# Altium integrated library TI_Logic_Universal_Bus_Function.IntLib: 113 symbols (part 4 of 5)
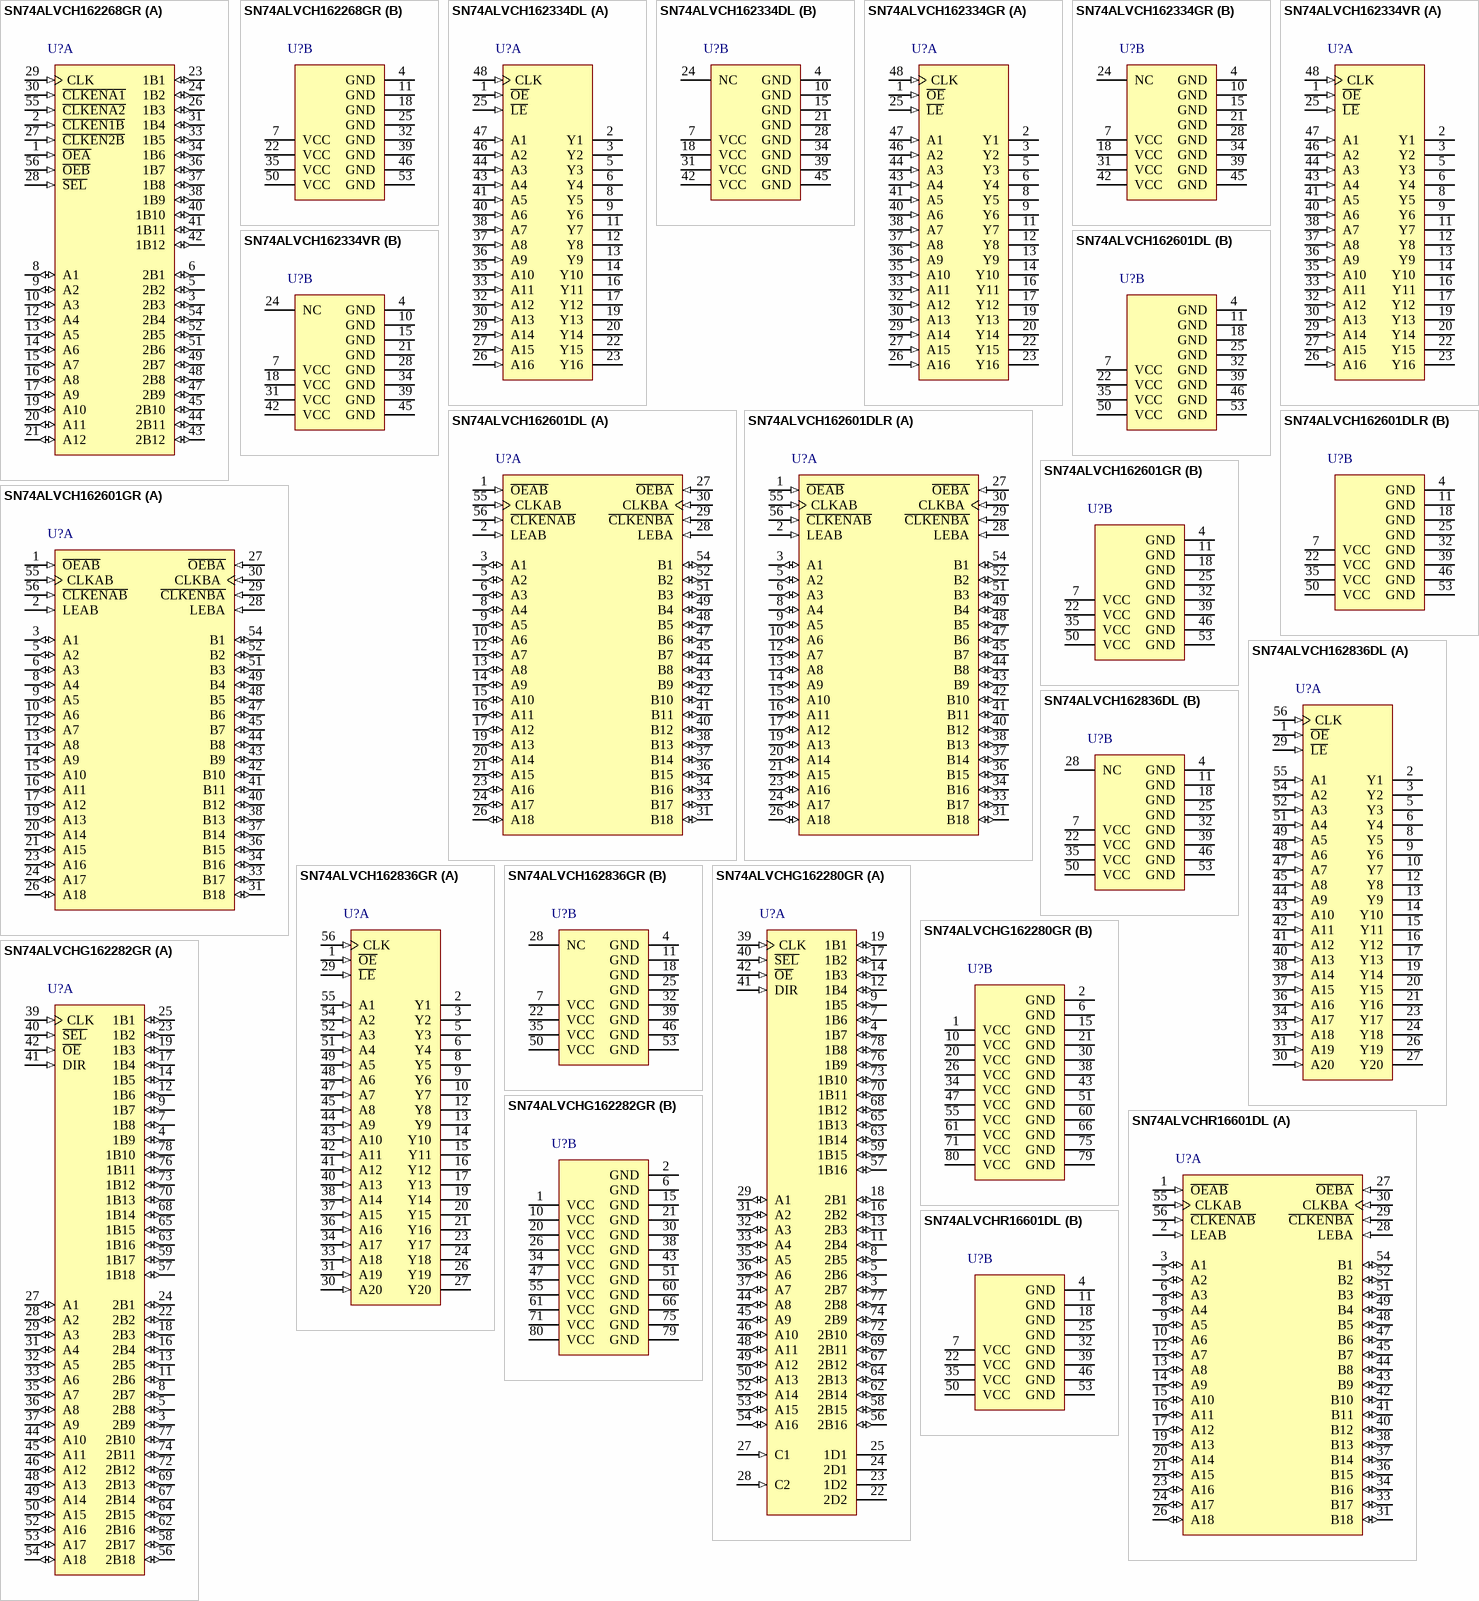
[diagram p12: symbols SN74ALVCH162268GR to SN74ALVCHR16601DL]

## SN74ALVCH162601DL
designator U?
18-Bit Universal Bus Transceiver With 3-State Outputs, DL0056A, TUBE; Generic Part Number: SN74ALVCH162601; Manufacturer: Texas Instruments; PartNumber: SN74ALVCH162601DL; VCC(Min)(V): 1.65; VCC(Max)(V): 3.6; Output Type: LVTTL; Logic: True; Static Current: 0.04; Bits(#): 18; F @ Nom Voltage(Max)(Mhz): 100; Rating: Catalog; Technology Family: ALVC; Voltage(Nom)(V): 3.3; Schmitt Trigger: No; Output Drive (IOL/IOH)(Max)(mA): -12/12; tpd @ Nom Voltage(Max)(ns): 5.5; DatasheetVersion: SCES026H; PackageReference: DL0056A; Supplier 1: Mouser; Supplier Part Number 1: 595-SNALVCH162601DL; Supplier 2: Digi-Key; Supplier Part Number 2: 296-5195-5-ND; ICC @ Nom Voltage(Max)(mA): 0.04; Input Type: LVTTL; Operating Temperature Range(C): -40 to 85; ComponentLink1Description: Manufacturer URL; ComponentLink1URL: http://www.ti.com/; ComponentLink2Description: Datasheet; ComponentLink2URL: http://www.ti.com/lit/ds/symlink/sn74alvch162601.pdf
footprint DL0056A_N (SOP, 56-Leads, Body 7.6x18.5mm, Pitch 0.635mm, IPC Medium Density)
footprint DL0056A_M (SOP, 56-Leads, Body 7.6x18.5mm, Pitch 0.635mm, IPC Low Density)
footprint DL0056A_L (SOP, 56-Leads, Body 7.6x18.5mm, Pitch 0.635mm, IPC High Density)
part A pins: 1 ~{OEAB} (in), 2 LEAB (in), 3 A1 (io), 5 A2 (io), 6 A3 (io), 8 A4 (io), 9 A5 (io), 10 A6 (io), 12 A7 (io), 13 A8 (io), 14 A9 (io), 15 A10 (io), 16 A11 (io), 17 A12 (io), 19 A13 (io), 20 A14 (io), 21 A15 (io), 23 A16 (io), 24 A17 (io), 26 A18 (io), 27 ~{OEBA} (in), 28 LEBA (in), 29 ~{CLKENBA} (in), 30 CLKBA (in), 31 B18 (io), 33 B17 (io), 34 B16 (io), 36 B15 (io), 37 B14 (io), 38 B13 (io), 40 B12 (io), 41 B11 (io), 42 B10 (io), 43 B9 (io), 44 B8 (io), 45 B7 (io), 47 B6 (io), 48 B5 (io), 49 B4 (io), 51 B3 (io), 52 B2 (io), 54 B1 (io), 55 CLKAB (in), 56 ~{CLKENAB} (in)
part B pins: 4 GND (power), 7 VCC (power), 11 GND (power), 18 GND (power), 22 VCC (power), 25 GND (power), 32 GND (power), 35 VCC (power), 39 GND (power), 46 GND (power), 50 VCC (power), 53 GND (power)

## SN74ALVCH162601DLR
designator U?
18-Bit Universal Bus Transceiver With 3-State Outputs, DL0056A, LARGE T&R; Generic Part Number: SN74ALVCH162601; Manufacturer: Texas Instruments; PartNumber: SN74ALVCH162601DLR; VCC(Min)(V): 1.65; VCC(Max)(V): 3.6; Output Type: LVTTL; Logic: True; Static Current: 0.04; Bits(#): 18; F @ Nom Voltage(Max)(Mhz): 100; Rating: Catalog; Technology Family: ALVC; Voltage(Nom)(V): 3.3; Schmitt Trigger: No; Output Drive (IOL/IOH)(Max)(mA): -12/12; tpd @ Nom Voltage(Max)(ns): 5.5; DatasheetVersion: SCES026H; PackageReference: DL0056A; Supplier 1: Mouser; Supplier Part Number 1: 595-SN74ALVCH16260LR; Supplier 2: Digi-Key; Supplier Part Number 2: 296-14782-2-ND; Supplier 3: Digi-Key; Supplier Part Number 3: 296-14782-1-ND; Supplier 4: Digi-Key; Supplier Part Number 4: 296-14782-6-ND; ICC @ Nom Voltage(Max)(mA): 0.04; Input Type: LVTTL; Operating Temperature Range(C): -40 to 85; ComponentLink1Description: Manufacturer URL; ComponentLink1URL: http://www.ti.com/; ComponentLink2Description: Datasheet; ComponentLink2URL: http://www.ti.com/lit/ds/symlink/sn74alvch162601.pdf
footprint DL0056A_N (SOP, 56-Leads, Body 7.6x18.5mm, Pitch 0.635mm, IPC Medium Density)
footprint DL0056A_M (SOP, 56-Leads, Body 7.6x18.5mm, Pitch 0.635mm, IPC Low Density)
footprint DL0056A_L (SOP, 56-Leads, Body 7.6x18.5mm, Pitch 0.635mm, IPC High Density)
part A pins: 1 ~{OEAB} (in), 2 LEAB (in), 3 A1 (io), 5 A2 (io), 6 A3 (io), 8 A4 (io), 9 A5 (io), 10 A6 (io), 12 A7 (io), 13 A8 (io), 14 A9 (io), 15 A10 (io), 16 A11 (io), 17 A12 (io), 19 A13 (io), 20 A14 (io), 21 A15 (io), 23 A16 (io), 24 A17 (io), 26 A18 (io), 27 ~{OEBA} (in), 28 LEBA (in), 29 ~{CLKENBA} (in), 30 CLKBA (in), 31 B18 (io), 33 B17 (io), 34 B16 (io), 36 B15 (io), 37 B14 (io), 38 B13 (io), 40 B12 (io), 41 B11 (io), 42 B10 (io), 43 B9 (io), 44 B8 (io), 45 B7 (io), 47 B6 (io), 48 B5 (io), 49 B4 (io), 51 B3 (io), 52 B2 (io), 54 B1 (io), 55 CLKAB (in), 56 ~{CLKENAB} (in)
part B pins: 4 GND (power), 7 VCC (power), 11 GND (power), 18 GND (power), 22 VCC (power), 25 GND (power), 32 GND (power), 35 VCC (power), 39 GND (power), 46 GND (power), 50 VCC (power), 53 GND (power)

## SN74ALVCH162601GR
designator U?
18-Bit Universal Bus Transceiver With 3-State Outputs, DGG0056A, LARGE T&R; Generic Part Number: SN74ALVCH162601; Manufacturer: Texas Instruments; PartNumber: SN74ALVCH162601GR; VCC(Min)(V): 1.65; VCC(Max)(V): 3.6; Output Type: LVTTL; Logic: True; Static Current: 0.04; Bits(#): 18; F @ Nom Voltage(Max)(Mhz): 100; Rating: Catalog; Technology Family: ALVC; Voltage(Nom)(V): 3.3; Schmitt Trigger: No; Output Drive (IOL/IOH)(Max)(mA): -12/12; tpd @ Nom Voltage(Max)(ns): 5.5; DatasheetVersion: SCES026H; PackageReference: DGG0056A; Supplier 1: Mouser; Supplier Part Number 1: 595-SNALVCH162601GR; Supplier 2: Digi-Key; Supplier Part Number 2: 296-5196-2-ND; Supplier 3: Digi-Key; Supplier Part Number 3: 296-5196-1-ND; Supplier 4: Digi-Key; Supplier Part Number 4: 296-5196-6-ND; ICC @ Nom Voltage(Max)(mA): 0.04; Input Type: LVTTL; Operating Temperature Range(C): -40 to 85; ComponentLink1Description: Manufacturer URL; ComponentLink1URL: http://www.ti.com/; ComponentLink2Description: Datasheet; ComponentLink2URL: http://www.ti.com/lit/ds/symlink/sn74alvch162601.pdf
footprint DGG0056A_N (TSSOP, 56-Leads, Body 14.1x6.2mm, Pitch 0.5mm, IPC Medium Density)
footprint DGG0056A_M (TSSOP, 56-Leads, Body 14.1x6.2mm, Pitch 0.5mm, IPC Low Density)
footprint DGG0056A_L (TSSOP, 56-Leads, Body 14.1x6.2mm, Pitch 0.5mm, IPC High Density)
part A pins: 1 ~{OEAB} (in), 2 LEAB (in), 3 A1 (io), 5 A2 (io), 6 A3 (io), 8 A4 (io), 9 A5 (io), 10 A6 (io), 12 A7 (io), 13 A8 (io), 14 A9 (io), 15 A10 (io), 16 A11 (io), 17 A12 (io), 19 A13 (io), 20 A14 (io), 21 A15 (io), 23 A16 (io), 24 A17 (io), 26 A18 (io), 27 ~{OEBA} (in), 28 LEBA (in), 29 ~{CLKENBA} (in), 30 CLKBA (in), 31 B18 (io), 33 B17 (io), 34 B16 (io), 36 B15 (io), 37 B14 (io), 38 B13 (io), 40 B12 (io), 41 B11 (io), 42 B10 (io), 43 B9 (io), 44 B8 (io), 45 B7 (io), 47 B6 (io), 48 B5 (io), 49 B4 (io), 51 B3 (io), 52 B2 (io), 54 B1 (io), 55 CLKAB (in), 56 ~{CLKENAB} (in)
part B pins: 4 GND (power), 7 VCC (power), 11 GND (power), 18 GND (power), 22 VCC (power), 25 GND (power), 32 GND (power), 35 VCC (power), 39 GND (power), 46 GND (power), 50 VCC (power), 53 GND (power)

## SN74ALVCH162836DL
designator U?
20-Bit Universal Bus Driver With 3-State Outputs, DL0056A, TUBE; Generic Part Number: SN74ALVCH162836; Manufacturer: Texas Instruments; PartNumber: SN74ALVCH162836DL; VCC(Min)(V): 1.65; VCC(Max)(V): 3.6; Output Type: CMOS; ICC @ Nom Voltage(Max)(mA): 0.04; Bits(#): 20; F @ Nom Voltage(Max)(Mhz): 150; Rating: Catalog; Technology Family: ALVC; Voltage(Nom)(V): 1.8,2.5,2.7,3.3; DatasheetVersion: SCES122F; PackageReference: DL0056A; Input Type: CMOS; Operating Temperature Range(C): -40 to 85; Code_JEDEC: MO-118; ComponentLink1Description: Manufacturer URL; ComponentLink1URL: http://www.ti.com/; ComponentLink2Description: Datasheet; ComponentLink2URL: http://www.ti.com/lit/ds/symlink/sn74alvch162836.pdf; ComponentLink3Description: Package Specification; ComponentLink3URL: http://www.ti.com/lit/ml/mpds491/mpds491.pdf
footprint DL0056A_N (SOP, 56-Leads, Body 7.6x18.5mm, Pitch 0.635mm, IPC Medium Density)
footprint DL0056A_M (SOP, 56-Leads, Body 7.6x18.5mm, Pitch 0.635mm, IPC Low Density)
footprint DL0056A_L (SOP, 56-Leads, Body 7.6x18.5mm, Pitch 0.635mm, IPC High Density)
part A pins: 1 ~{OE} (in), 2 Y1 (hiz), 3 Y2 (hiz), 5 Y3 (hiz), 6 Y4 (hiz), 8 Y5 (hiz), 9 Y6 (hiz), 10 Y7 (hiz), 12 Y8 (hiz), 13 Y9 (hiz), 14 Y10 (hiz), 15 Y11 (hiz), 16 Y12 (hiz), 17 Y13 (hiz), 19 Y14 (hiz), 20 Y15 (hiz), 21 Y16 (hiz), 23 Y17 (hiz), 24 Y18 (hiz), 26 Y19 (hiz), 27 Y20 (hiz), 29 ~{LE} (in), 30 A20 (in), 31 A19 (in), 33 A18 (in), 34 A17 (in), 36 A16 (in), 37 A15 (in), 38 A14 (in), 40 A13 (in), 41 A12 (in), 42 A11 (in), 43 A10 (in), 44 A9 (in), 45 A8 (in), 47 A7 (in), 48 A6 (in), 49 A5 (in), 51 A4 (in), 52 A3 (in), 54 A2 (in), 55 A1 (in), 56 CLK (in)
part B pins: 4 GND (power), 7 VCC (power), 11 GND (power), 18 GND (power), 22 VCC (power), 25 GND (power), 28 NC, 32 GND (power), 35 VCC (power), 39 GND (power), 46 GND (power), 50 VCC (power), 53 GND (power)

## SN74ALVCH162836GR
designator U?
20-Bit Universal Bus Driver With 3-State Outputs, DGG0056A, LARGE T&R; Generic Part Number: SN74ALVCH162836; Manufacturer: Texas Instruments; PartNumber: SN74ALVCH162836GR; VCC(Min)(V): 1.65; VCC(Max)(V): 3.6; Output Type: CMOS; ICC @ Nom Voltage(Max)(mA): 0.04; Bits(#): 20; F @ Nom Voltage(Max)(Mhz): 150; Rating: Catalog; Technology Family: ALVC; Voltage(Nom)(V): 1.8,2.5,2.7,3.3; DatasheetVersion: SCES122F; PackageReference: DGG0056A; Input Type: CMOS; Operating Temperature Range(C): -40 to 85; Code_JEDEC: MO-153; ComponentLink1Description: Manufacturer URL; ComponentLink1URL: http://www.ti.com/; ComponentLink2Description: Datasheet; ComponentLink2URL: http://www.ti.com/lit/ds/symlink/sn74alvch162836.pdf; ComponentLink3Description: Package Specification; ComponentLink3URL: http://www.ti.com/lit/ml/mtss003d/mtss003d.pdf
footprint DGG0056A_N (TSSOP, 56-Leads, Body 14.1x6.2mm, Pitch 0.5mm, IPC Medium Density)
footprint DGG0056A_M (TSSOP, 56-Leads, Body 14.1x6.2mm, Pitch 0.5mm, IPC Low Density)
footprint DGG0056A_L (TSSOP, 56-Leads, Body 14.1x6.2mm, Pitch 0.5mm, IPC High Density)
part A pins: 1 ~{OE} (in), 2 Y1 (hiz), 3 Y2 (hiz), 5 Y3 (hiz), 6 Y4 (hiz), 8 Y5 (hiz), 9 Y6 (hiz), 10 Y7 (hiz), 12 Y8 (hiz), 13 Y9 (hiz), 14 Y10 (hiz), 15 Y11 (hiz), 16 Y12 (hiz), 17 Y13 (hiz), 19 Y14 (hiz), 20 Y15 (hiz), 21 Y16 (hiz), 23 Y17 (hiz), 24 Y18 (hiz), 26 Y19 (hiz), 27 Y20 (hiz), 29 ~{LE} (in), 30 A20 (in), 31 A19 (in), 33 A18 (in), 34 A17 (in), 36 A16 (in), 37 A15 (in), 38 A14 (in), 40 A13 (in), 41 A12 (in), 42 A11 (in), 43 A10 (in), 44 A9 (in), 45 A8 (in), 47 A7 (in), 48 A6 (in), 49 A5 (in), 51 A4 (in), 52 A3 (in), 54 A2 (in), 55 A1 (in), 56 CLK (in)
part B pins: 4 GND (power), 7 VCC (power), 11 GND (power), 18 GND (power), 22 VCC (power), 25 GND (power), 28 NC, 32 GND (power), 35 VCC (power), 39 GND (power), 46 GND (power), 50 VCC (power), 53 GND (power)

## SN74ALVCHG162280GR
designator U?
16-To-32 Bit Registered Bus Exchanger With Byte Masks And 3-State Outputs, DBB0080A, LARGE T&R; Generic Part Number: SN74ALVCHG162280; Manufacturer: Texas Instruments; PartNumber: SN74ALVCHG162280GR; VCC(Min)(V): 1.65; VCC(Max)(V): 3.6; Output Type: CMOS; ICC @ Nom Voltage(Max)(mA): 0.04; Bits(#): 32; F @ Nom Voltage(Max)(Mhz): 160; Rating: Catalog; DatasheetVersion: SCES093D; PackageReference: DBB0080A; Input Type: CMOS; Operating Temperature Range(C): -40 to 85; Code_JEDEC: MO-153 Variation FF; ComponentLink1Description: Manufacturer URL; ComponentLink1URL: http://www.ti.com/; ComponentLink2Description: Datasheet; ComponentLink2URL: http://www.ti.com/lit/ds/symlink/sn74alvchg162280.pdf; ComponentLink3Description: Package Specification; ComponentLink3URL: http://www.ti.com/lit/ml/mtss005d/mtss005d.pdf
footprint DBB0080A_N (SOP, 80-Leads, Body 17.1x6.2mm, Pitch 0.4mm, IPC Medium Density)
footprint DBB0080A_M (SOP, 80-Leads, Body 17.1x6.2mm, Pitch 0.4mm, IPC Low Density)
footprint DBB0080A_L (SOP, 80-Leads, Body 17.1x6.2mm, Pitch 0.4mm, IPC High Density)
part A pins: 3 2B7 (io), 4 1B7 (io), 5 2B6 (io), 7 1B6 (io), 8 2B5 (io), 9 1B5 (io), 11 2B4 (io), 12 1B4 (io), 13 2B3 (io), 14 1B3 (io), 16 2B2 (io), 17 1B2 (io), 18 2B1 (io), 19 1B1 (io), 22 2D2 (hiz), 23 1D2 (hiz), 24 2D1 (hiz), 25 1D1 (hiz), 27 C1 (in), 28 C2 (in), 29 A1 (io), 31 A2 (io), 32 A3 (io), 33 A4 (io), 35 A5 (io), 36 A6 (io), 37 A7 (io), 39 CLK (in), 40 ~{SEL} (in), 41 DIR (in), 42 ~{OE} (in), 44 A8 (io), 45 A9 (io), 46 A10 (io), 48 A11 (io), 49 A12 (io), 50 A13 (io), 52 A14 (io), 53 A15 (io), 54 A16 (io), 56 2B16 (io), 57 1B16 (io), 58 2B15 (io), 59 1B15 (io), 62 2B14 (io), 63 1B14 (io), 64 2B13 (io), 65 1B13 (io), 67 2B12 (io), 68 1B12 (io), 69 2B11 (io), 70 1B11 (io), 72 2B10 (io), 73 1B10 (io), 74 2B9 (io), 76 1B9 (io), 77 2B8 (io), 78 1B8 (io)
part B pins: 1 VCC (power), 2 GND (power), 6 GND (power), 10 VCC (power), 15 GND (power), 20 VCC (power), 21 GND (power), 26 VCC (power), 30 GND (power), 34 VCC (power), 38 GND (power), 43 GND (power), 47 VCC (power), 51 GND (power), 55 VCC (power), 60 GND (power), 61 VCC (power), 66 GND (power), 71 VCC (power), 75 GND (power), 79 GND (power), 80 VCC (power)

## SN74ALVCHG162282GR
designator U?
18-Bit To 36-Bit Registered Bus Exchanger With 3-State Outputs, DBB0080A, LARGE T&R; Generic Part Number: SN74ALVCHG162282; Manufacturer: Texas Instruments; PartNumber: SN74ALVCHG162282GR; VCC(Min)(V): 1.65; VCC(Max)(V): 3.6; Output Type: CMOS; ICC @ Nom Voltage(Max)(mA): 0.04; Bits(#): 36; F @ Nom Voltage(Max)(Mhz): 160; Rating: Catalog; DatasheetVersion: SCES094D; PackageReference: DBB0080A; Input Type: CMOS; Operating Temperature Range(C): -40 to 85; Code_JEDEC: MO-153 Variation FF; ComponentLink1Description: Manufacturer URL; ComponentLink1URL: http://www.ti.com/; ComponentLink2Description: Datasheet; ComponentLink2URL: http://www.ti.com/lit/ds/symlink/sn74alvchg162282.pdf; ComponentLink3Description: Package Specification; ComponentLink3URL: http://www.ti.com/lit/ml/mtss005d/mtss005d.pdf
footprint DBB0080A_N (SOP, 80-Leads, Body 17.1x6.2mm, Pitch 0.4mm, IPC Medium Density)
footprint DBB0080A_M (SOP, 80-Leads, Body 17.1x6.2mm, Pitch 0.4mm, IPC Low Density)
footprint DBB0080A_L (SOP, 80-Leads, Body 17.1x6.2mm, Pitch 0.4mm, IPC High Density)
part A pins: 3 2B9 (io), 4 1B9 (io), 5 2B8 (io), 7 1B8 (io), 8 2B7 (io), 9 1B7 (io), 11 2B6 (io), 12 1B6 (io), 13 2B5 (io), 14 1B5 (io), 16 2B4 (io), 17 1B4 (io), 18 2B3 (io), 19 1B3 (io), 22 2B2 (io), 23 1B2 (io), 24 2B1 (io), 25 1B1 (io), 27 A1 (io), 28 A2 (io), 29 A3 (io), 31 A4 (io), 32 A5 (io), 33 A6 (io), 35 A7 (io), 36 A8 (io), 37 A9 (io), 39 CLK (in), 40 ~{SEL} (in), 41 DIR (in), 42 ~{OE} (in), 44 A10 (io), 45 A11 (io), 46 A12 (io), 48 A13 (io), 49 A14 (io), 50 A15 (io), 52 A16 (io), 53 A17 (io), 54 A18 (io), 56 2B18 (io), 57 1B18 (io), 58 2B17 (io), 59 1B17 (io), 62 2B16 (io), 63 1B16 (io), 64 2B15 (io), 65 1B15 (io), 67 2B14 (io), 68 1B14 (io), 69 2B13 (io), 70 1B13 (io), 72 2B12 (io), 73 1B12 (io), 74 2B11 (io), 76 1B11 (io), 77 2B10 (io), 78 1B10 (io)
part B pins: 1 VCC (power), 2 GND (power), 6 GND (power), 10 VCC (power), 15 GND (power), 20 VCC (power), 21 GND (power), 26 VCC (power), 30 GND (power), 34 VCC (power), 38 GND (power), 43 GND (power), 47 VCC (power), 51 GND (power), 55 VCC (power), 60 GND (power), 61 VCC (power), 66 GND (power), 71 VCC (power), 75 GND (power), 79 GND (power), 80 VCC (power)

## SN74ALVCHR16601DL
designator U?
18-Bit Universal Bus Transceiver With 3-State Outputs, DL0056A, TUBE; Generic Part Number: SN74ALVCHR16601; Manufacturer: Texas Instruments; PartNumber: SN74ALVCHR16601DL; VCC(Min)(V): 1.65; VCC(Max)(V): 3.6; Output Type: LVTTL; ICC @ Nom Voltage(Max)(mA): 0.04; Bits(#): 18; F @ Nom Voltage(Max)(Mhz): 150; Rating: Catalog; Technology Family: ALVC; Voltage(Nom)(V): 3.3; Schmitt Trigger: No; Output Drive (IOL/IOH)(Max)(mA): -12/12; tpd @ Nom Voltage(Max)(ns): 5.4; DatasheetVersion: SCES123I; PackageReference: DL0056A; Supplier 1: Mouser; Supplier Part Number 1: 595-SN74ALVCHR16601D; Supplier 2: Digi-Key; Supplier Part Number 2: SN74ALVCHR16601DL-ND; Input Type: LVTTL; Operating Temperature Range(C): -40 to 85; ComponentLink1Description: Manufacturer URL; ComponentLink1URL: http://www.ti.com/; ComponentLink2Description: Datasheet; ComponentLink2URL: http://www.ti.com/lit/ds/symlink/sn74alvchr16601.pdf
footprint DL0056A_N (SOP, 56-Leads, Body 7.6x18.5mm, Pitch 0.635mm, IPC Medium Density)
footprint DL0056A_M (SOP, 56-Leads, Body 7.6x18.5mm, Pitch 0.635mm, IPC Low Density)
footprint DL0056A_L (SOP, 56-Leads, Body 7.6x18.5mm, Pitch 0.635mm, IPC High Density)
part A pins: 1 ~{OEAB} (in), 2 LEAB (in), 3 A1 (io), 5 A2 (io), 6 A3 (io), 8 A4 (io), 9 A5 (io), 10 A6 (io), 12 A7 (io), 13 A8 (io), 14 A9 (io), 15 A10 (io), 16 A11 (io), 17 A12 (io), 19 A13 (io), 20 A14 (io), 21 A15 (io), 23 A16 (io), 24 A17 (io), 26 A18 (io), 27 ~{OEBA} (in), 28 LEBA (in), 29 ~{CLKENBA} (in), 30 CLKBA (in), 31 B18 (io), 33 B17 (io), 34 B16 (io), 36 B15 (io), 37 B14 (io), 38 B13 (io), 40 B12 (io), 41 B11 (io), 42 B10 (io), 43 B9 (io), 44 B8 (io), 45 B7 (io), 47 B6 (io), 48 B5 (io), 49 B4 (io), 51 B3 (io), 52 B2 (io), 54 B1 (io), 55 CLKAB (in), 56 ~{CLKENAB} (in)
part B pins: 4 GND (power), 7 VCC (power), 11 GND (power), 18 GND (power), 22 VCC (power), 25 GND (power), 32 GND (power), 35 VCC (power), 39 GND (power), 46 GND (power), 50 VCC (power), 53 GND (power)

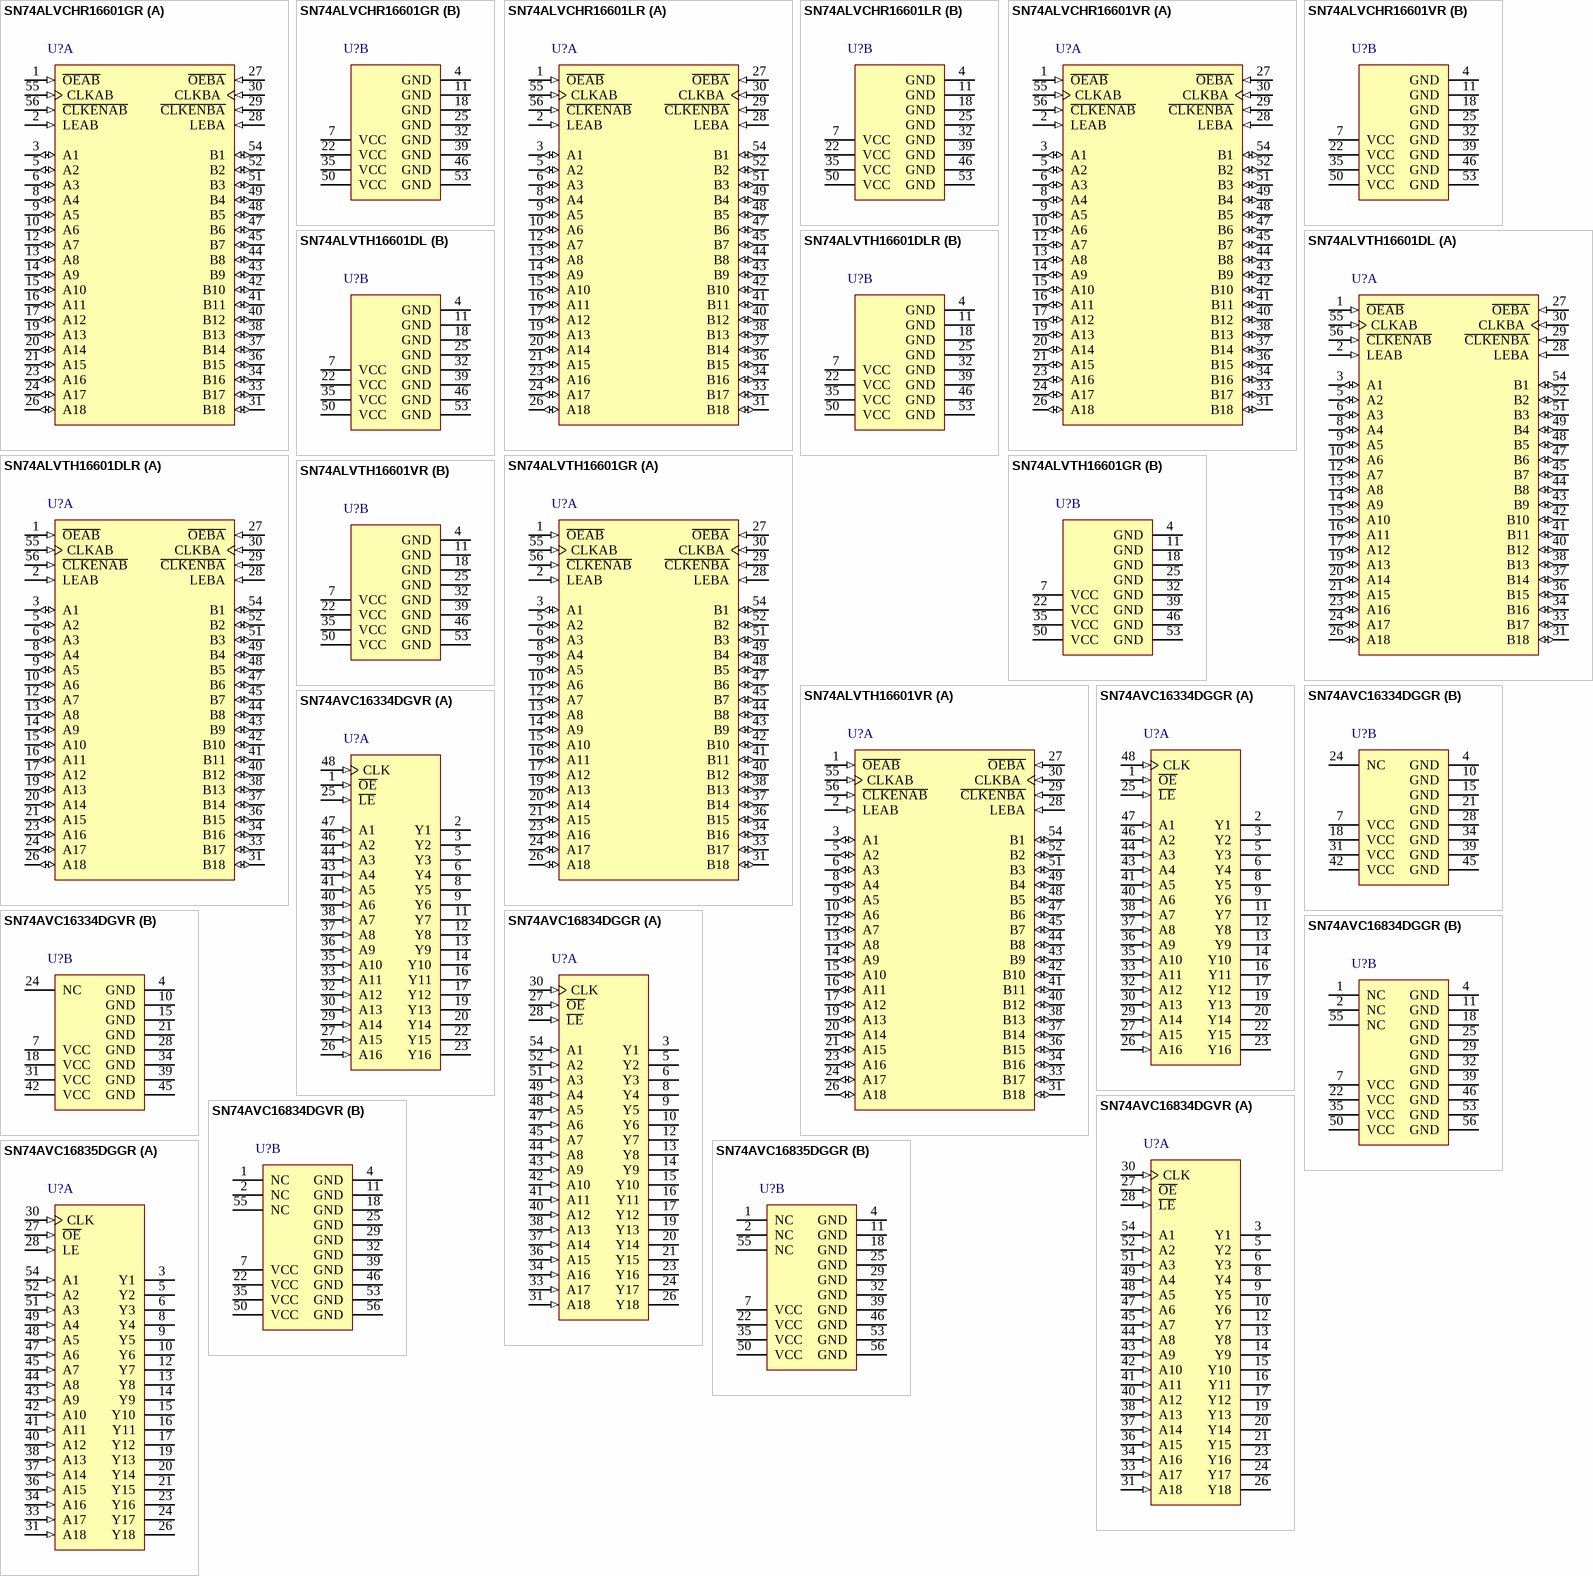
[diagram p7: symbols SN74ALVCHR16601GR to SN74AVC16835DGGR]

## SN74ALVCHR16601GR
designator U?
18-Bit Universal Bus Transceiver With 3-State Outputs, DGG0056A, LARGE T&R; Generic Part Number: SN74ALVCHR16601; Manufacturer: Texas Instruments; PartNumber: SN74ALVCHR16601GR; VCC(Min)(V): 1.65; VCC(Max)(V): 3.6; Output Type: LVTTL; ICC @ Nom Voltage(Max)(mA): 0.04; Bits(#): 18; F @ Nom Voltage(Max)(Mhz): 150; Rating: Catalog; Technology Family: ALVC; Voltage(Nom)(V): 3.3; Schmitt Trigger: No; Output Drive (IOL/IOH)(Max)(mA): -12/12; tpd @ Nom Voltage(Max)(ns): 5.4; DatasheetVersion: SCES123I; PackageReference: DGG0056A; Supplier 1: Mouser; Supplier Part Number 1: 595-74ALVCHR16601GR; Supplier 2: Digi-Key; Supplier Part Number 2: 296-1150-2-ND; Supplier 3: Digi-Key; Supplier Part Number 3: 296-1150-1-ND; Supplier 4: Digi-Key; Supplier Part Number 4: 296-1150-6-ND; Input Type: LVTTL; Operating Temperature Range(C): -40 to 85; ComponentLink1Description: Manufacturer URL; ComponentLink1URL: http://www.ti.com/; ComponentLink2Description: Datasheet; ComponentLink2URL: http://www.ti.com/lit/ds/symlink/sn74alvchr16601.pdf
footprint DGG0056A_N (TSSOP, 56-Leads, Body 14.1x6.2mm, Pitch 0.5mm, IPC Medium Density)
footprint DGG0056A_M (TSSOP, 56-Leads, Body 14.1x6.2mm, Pitch 0.5mm, IPC Low Density)
footprint DGG0056A_L (TSSOP, 56-Leads, Body 14.1x6.2mm, Pitch 0.5mm, IPC High Density)
part A pins: 1 ~{OEAB} (in), 2 LEAB (in), 3 A1 (io), 5 A2 (io), 6 A3 (io), 8 A4 (io), 9 A5 (io), 10 A6 (io), 12 A7 (io), 13 A8 (io), 14 A9 (io), 15 A10 (io), 16 A11 (io), 17 A12 (io), 19 A13 (io), 20 A14 (io), 21 A15 (io), 23 A16 (io), 24 A17 (io), 26 A18 (io), 27 ~{OEBA} (in), 28 LEBA (in), 29 ~{CLKENBA} (in), 30 CLKBA (in), 31 B18 (io), 33 B17 (io), 34 B16 (io), 36 B15 (io), 37 B14 (io), 38 B13 (io), 40 B12 (io), 41 B11 (io), 42 B10 (io), 43 B9 (io), 44 B8 (io), 45 B7 (io), 47 B6 (io), 48 B5 (io), 49 B4 (io), 51 B3 (io), 52 B2 (io), 54 B1 (io), 55 CLKAB (in), 56 ~{CLKENAB} (in)
part B pins: 4 GND (power), 7 VCC (power), 11 GND (power), 18 GND (power), 22 VCC (power), 25 GND (power), 32 GND (power), 35 VCC (power), 39 GND (power), 46 GND (power), 50 VCC (power), 53 GND (power)

## SN74ALVCHR16601LR
designator U?
18-Bit Universal Bus Transceiver With 3-State Outputs, DL0056A, LARGE T&R; Generic Part Number: SN74ALVCHR16601; Manufacturer: Texas Instruments; PartNumber: SN74ALVCHR16601LR; VCC(Min)(V): 1.65; VCC(Max)(V): 3.6; Output Type: LVTTL; ICC @ Nom Voltage(Max)(mA): 0.04; Bits(#): 18; F @ Nom Voltage(Max)(Mhz): 150; Rating: Catalog; Technology Family: ALVC; Voltage(Nom)(V): 3.3; Schmitt Trigger: No; Output Drive (IOL/IOH)(Max)(mA): -12/12; tpd @ Nom Voltage(Max)(ns): 5.4; DatasheetVersion: SCES123I; PackageReference: DL0056A; Supplier 1: Mouser; Supplier Part Number 1: 595-74ALVCHR16601LR; Supplier 2: Digi-Key; Supplier Part Number 2: 296-6292-2-ND; Supplier 3: Digi-Key; Supplier Part Number 3: 296-6292-1-ND; Supplier 4: Digi-Key; Supplier Part Number 4: 296-6292-6-ND; Input Type: LVTTL; Operating Temperature Range(C): -40 to 85; ComponentLink1Description: Manufacturer URL; ComponentLink1URL: http://www.ti.com/; ComponentLink2Description: Datasheet; ComponentLink2URL: http://www.ti.com/lit/ds/symlink/sn74alvchr16601.pdf
footprint DL0056A_N (SOP, 56-Leads, Body 7.6x18.5mm, Pitch 0.635mm, IPC Medium Density)
footprint DL0056A_M (SOP, 56-Leads, Body 7.6x18.5mm, Pitch 0.635mm, IPC Low Density)
footprint DL0056A_L (SOP, 56-Leads, Body 7.6x18.5mm, Pitch 0.635mm, IPC High Density)
part A pins: 1 ~{OEAB} (in), 2 LEAB (in), 3 A1 (io), 5 A2 (io), 6 A3 (io), 8 A4 (io), 9 A5 (io), 10 A6 (io), 12 A7 (io), 13 A8 (io), 14 A9 (io), 15 A10 (io), 16 A11 (io), 17 A12 (io), 19 A13 (io), 20 A14 (io), 21 A15 (io), 23 A16 (io), 24 A17 (io), 26 A18 (io), 27 ~{OEBA} (in), 28 LEBA (in), 29 ~{CLKENBA} (in), 30 CLKBA (in), 31 B18 (io), 33 B17 (io), 34 B16 (io), 36 B15 (io), 37 B14 (io), 38 B13 (io), 40 B12 (io), 41 B11 (io), 42 B10 (io), 43 B9 (io), 44 B8 (io), 45 B7 (io), 47 B6 (io), 48 B5 (io), 49 B4 (io), 51 B3 (io), 52 B2 (io), 54 B1 (io), 55 CLKAB (in), 56 ~{CLKENAB} (in)
part B pins: 4 GND (power), 7 VCC (power), 11 GND (power), 18 GND (power), 22 VCC (power), 25 GND (power), 32 GND (power), 35 VCC (power), 39 GND (power), 46 GND (power), 50 VCC (power), 53 GND (power)

## SN74ALVCHR16601VR
designator U?
18-Bit Universal Bus Transceiver With 3-State Outputs, DGV0056A, LARGE T&R; Generic Part Number: SN74ALVCHR16601; Manufacturer: Texas Instruments; PartNumber: SN74ALVCHR16601VR; VCC(Min)(V): 1.65; VCC(Max)(V): 3.6; Output Type: LVTTL; ICC @ Nom Voltage(Max)(mA): 0.04; Bits(#): 18; F @ Nom Voltage(Max)(Mhz): 150; Rating: Catalog; Technology Family: ALVC; Voltage(Nom)(V): 3.3; Schmitt Trigger: No; Output Drive (IOL/IOH)(Max)(mA): -12/12; tpd @ Nom Voltage(Max)(ns): 5.4; DatasheetVersion: SCES123I; PackageReference: DGV0056A; Supplier 1: Mouser; Supplier Part Number 1: 595-74ALVCHR16601VR; Supplier 2: Digi-Key; Supplier Part Number 2: 296-12878-2-ND; Supplier 3: Digi-Key; Supplier Part Number 3: 296-12878-1-ND; Supplier 4: Digi-Key; Supplier Part Number 4: 296-12878-6-ND; Input Type: LVTTL; Operating Temperature Range(C): -40 to 85; ComponentLink1Description: Manufacturer URL; ComponentLink1URL: http://www.ti.com/; ComponentLink2Description: Datasheet; ComponentLink2URL: http://www.ti.com/lit/ds/symlink/sn74alvchr16601.pdf
footprint DGV0056A_N (SOP, 56-Leads, Body 4.5x11.4mm, Pitch 0.4mm, IPC Medium Density)
footprint DGV0056A_M (SOP, 56-Leads, Body 4.5x11.4mm, Pitch 0.4mm, IPC Low Density)
footprint DGV0056A_L (SOP, 56-Leads, Body 4.5x11.4mm, Pitch 0.4mm, IPC High Density)
part A pins: 1 ~{OEAB} (in), 2 LEAB (in), 3 A1 (io), 5 A2 (io), 6 A3 (io), 8 A4 (io), 9 A5 (io), 10 A6 (io), 12 A7 (io), 13 A8 (io), 14 A9 (io), 15 A10 (io), 16 A11 (io), 17 A12 (io), 19 A13 (io), 20 A14 (io), 21 A15 (io), 23 A16 (io), 24 A17 (io), 26 A18 (io), 27 ~{OEBA} (in), 28 LEBA (in), 29 ~{CLKENBA} (in), 30 CLKBA (in), 31 B18 (io), 33 B17 (io), 34 B16 (io), 36 B15 (io), 37 B14 (io), 38 B13 (io), 40 B12 (io), 41 B11 (io), 42 B10 (io), 43 B9 (io), 44 B8 (io), 45 B7 (io), 47 B6 (io), 48 B5 (io), 49 B4 (io), 51 B3 (io), 52 B2 (io), 54 B1 (io), 55 CLKAB (in), 56 ~{CLKENAB} (in)
part B pins: 4 GND (power), 7 VCC (power), 11 GND (power), 18 GND (power), 22 VCC (power), 25 GND (power), 32 GND (power), 35 VCC (power), 39 GND (power), 46 GND (power), 50 VCC (power), 53 GND (power)

## SN74ALVTH16601DL
designator U?
2.5-V/3.3-V 18-Bit Universal Bus Transceiver With 3-State Outputs, DL0056A, TUBE; Generic Part Number: SN74ALVTH16601; Manufacturer: Texas Instruments; PartNumber: SN74ALVTH16601DL; VCC(Min)(V): 2.3; VCC(Max)(V): 3.6; Output Type: LVTTL; ICC @ Nom Voltage(Max)(mA): 5; Bits(#): 18; F @ Nom Voltage(Max)(Mhz): 160; Rating: Catalog; Technology Family: ALVT; Voltage(Nom)(V): 2.5,3.3; Schmitt Trigger: No; Output Drive (IOL/IOH)(Max)(mA): -24/24,-32/64; tpd @ Nom Voltage(Max)(ns): 4.8,3.9; DatasheetVersion: SCES143A; PackageReference: DL0056A; Supplier 1: Mouser; Supplier Part Number 1: 595-SN74ALVTH16601DL; Supplier 2: Digi-Key; Supplier Part Number 2: SN74ALVTH16601DL-ND; Input Type: LVTTL; Operating Temperature Range(C): -40 to 85; ComponentLink1Description: Manufacturer URL; ComponentLink1URL: http://www.ti.com/; ComponentLink2Description: Datasheet; ComponentLink2URL: http://www.ti.com/lit/ds/symlink/sn74alvth16601.pdf
footprint DL0056A_N (SOP, 56-Leads, Body 7.6x18.5mm, Pitch 0.635mm, IPC Medium Density)
footprint DL0056A_M (SOP, 56-Leads, Body 7.6x18.5mm, Pitch 0.635mm, IPC Low Density)
footprint DL0056A_L (SOP, 56-Leads, Body 7.6x18.5mm, Pitch 0.635mm, IPC High Density)
part A pins: 1 ~{OEAB} (in), 2 LEAB (in), 3 A1 (io), 5 A2 (io), 6 A3 (io), 8 A4 (io), 9 A5 (io), 10 A6 (io), 12 A7 (io), 13 A8 (io), 14 A9 (io), 15 A10 (io), 16 A11 (io), 17 A12 (io), 19 A13 (io), 20 A14 (io), 21 A15 (io), 23 A16 (io), 24 A17 (io), 26 A18 (io), 27 ~{OEBA} (in), 28 LEBA (in), 29 ~{CLKENBA} (in), 30 CLKBA (in), 31 B18 (io), 33 B17 (io), 34 B16 (io), 36 B15 (io), 37 B14 (io), 38 B13 (io), 40 B12 (io), 41 B11 (io), 42 B10 (io), 43 B9 (io), 44 B8 (io), 45 B7 (io), 47 B6 (io), 48 B5 (io), 49 B4 (io), 51 B3 (io), 52 B2 (io), 54 B1 (io), 55 CLKAB (in), 56 ~{CLKENAB} (in)
part B pins: 4 GND (power), 7 VCC (power), 11 GND (power), 18 GND (power), 22 VCC (power), 25 GND (power), 32 GND (power), 35 VCC (power), 39 GND (power), 46 GND (power), 50 VCC (power), 53 GND (power)

## SN74ALVTH16601DLR
designator U?
2.5-V/3.3-V 18-Bit Universal Bus Transceiver With 3-State Outputs, DL0056A, LARGE T&R; Generic Part Number: SN74ALVTH16601; Manufacturer: Texas Instruments; PartNumber: SN74ALVTH16601DLR; VCC(Min)(V): 2.3; VCC(Max)(V): 3.6; Output Type: LVTTL; ICC @ Nom Voltage(Max)(mA): 5; Bits(#): 18; F @ Nom Voltage(Max)(Mhz): 160; Rating: Catalog; Technology Family: ALVT; Voltage(Nom)(V): 2.5,3.3; Schmitt Trigger: No; Output Drive (IOL/IOH)(Max)(mA): -24/24,-32/64; tpd @ Nom Voltage(Max)(ns): 4.8,3.9; DatasheetVersion: SCES143A; PackageReference: DL0056A; Supplier 1: Mouser; Supplier Part Number 1: 595-74ALVTH16601DLR; Supplier 2: Digi-Key; Supplier Part Number 2: 296-6312-2-ND; Supplier 3: Digi-Key; Supplier Part Number 3: 296-6312-1-ND; Supplier 4: Digi-Key; Supplier Part Number 4: 296-6312-6-ND; Input Type: LVTTL; Operating Temperature Range(C): -40 to 85; ComponentLink1Description: Manufacturer URL; ComponentLink1URL: http://www.ti.com/; ComponentLink2Description: Datasheet; ComponentLink2URL: http://www.ti.com/lit/ds/symlink/sn74alvth16601.pdf
footprint DL0056A_N (SOP, 56-Leads, Body 7.6x18.5mm, Pitch 0.635mm, IPC Medium Density)
footprint DL0056A_M (SOP, 56-Leads, Body 7.6x18.5mm, Pitch 0.635mm, IPC Low Density)
footprint DL0056A_L (SOP, 56-Leads, Body 7.6x18.5mm, Pitch 0.635mm, IPC High Density)
part A pins: 1 ~{OEAB} (in), 2 LEAB (in), 3 A1 (io), 5 A2 (io), 6 A3 (io), 8 A4 (io), 9 A5 (io), 10 A6 (io), 12 A7 (io), 13 A8 (io), 14 A9 (io), 15 A10 (io), 16 A11 (io), 17 A12 (io), 19 A13 (io), 20 A14 (io), 21 A15 (io), 23 A16 (io), 24 A17 (io), 26 A18 (io), 27 ~{OEBA} (in), 28 LEBA (in), 29 ~{CLKENBA} (in), 30 CLKBA (in), 31 B18 (io), 33 B17 (io), 34 B16 (io), 36 B15 (io), 37 B14 (io), 38 B13 (io), 40 B12 (io), 41 B11 (io), 42 B10 (io), 43 B9 (io), 44 B8 (io), 45 B7 (io), 47 B6 (io), 48 B5 (io), 49 B4 (io), 51 B3 (io), 52 B2 (io), 54 B1 (io), 55 CLKAB (in), 56 ~{CLKENAB} (in)
part B pins: 4 GND (power), 7 VCC (power), 11 GND (power), 18 GND (power), 22 VCC (power), 25 GND (power), 32 GND (power), 35 VCC (power), 39 GND (power), 46 GND (power), 50 VCC (power), 53 GND (power)

## SN74ALVTH16601GR
designator U?
2.5-V/3.3-V 18-Bit Universal Bus Transceiver With 3-State Outputs, DGG0056A, LARGE T&R; Generic Part Number: SN74ALVTH16601; Manufacturer: Texas Instruments; PartNumber: SN74ALVTH16601GR; VCC(Min)(V): 2.3; VCC(Max)(V): 3.6; Output Type: LVTTL; ICC @ Nom Voltage(Max)(mA): 5; Bits(#): 18; F @ Nom Voltage(Max)(Mhz): 160; Rating: Catalog; Technology Family: ALVT; Voltage(Nom)(V): 2.5,3.3; Schmitt Trigger: No; Output Drive (IOL/IOH)(Max)(mA): -24/24,-32/64; tpd @ Nom Voltage(Max)(ns): 4.8,3.9; DatasheetVersion: SCES143A; PackageReference: DGG0056A; Supplier 1: Mouser; Supplier Part Number 1: 595-SN74ALVTH16601GR; Supplier 2: Digi-Key; Supplier Part Number 2: 296-6313-2-ND; Supplier 3: Digi-Key; Supplier Part Number 3: 296-6313-1-ND; Supplier 4: Digi-Key; Supplier Part Number 4: 296-6313-6-ND; Input Type: LVTTL; Operating Temperature Range(C): -40 to 85; ComponentLink1Description: Manufacturer URL; ComponentLink1URL: http://www.ti.com/; ComponentLink2Description: Datasheet; ComponentLink2URL: http://www.ti.com/lit/ds/symlink/sn74alvth16601.pdf
footprint DGG0056A_N (TSSOP, 56-Leads, Body 14.1x6.2mm, Pitch 0.5mm, IPC Medium Density)
footprint DGG0056A_M (TSSOP, 56-Leads, Body 14.1x6.2mm, Pitch 0.5mm, IPC Low Density)
footprint DGG0056A_L (TSSOP, 56-Leads, Body 14.1x6.2mm, Pitch 0.5mm, IPC High Density)
part A pins: 1 ~{OEAB} (in), 2 LEAB (in), 3 A1 (io), 5 A2 (io), 6 A3 (io), 8 A4 (io), 9 A5 (io), 10 A6 (io), 12 A7 (io), 13 A8 (io), 14 A9 (io), 15 A10 (io), 16 A11 (io), 17 A12 (io), 19 A13 (io), 20 A14 (io), 21 A15 (io), 23 A16 (io), 24 A17 (io), 26 A18 (io), 27 ~{OEBA} (in), 28 LEBA (in), 29 ~{CLKENBA} (in), 30 CLKBA (in), 31 B18 (io), 33 B17 (io), 34 B16 (io), 36 B15 (io), 37 B14 (io), 38 B13 (io), 40 B12 (io), 41 B11 (io), 42 B10 (io), 43 B9 (io), 44 B8 (io), 45 B7 (io), 47 B6 (io), 48 B5 (io), 49 B4 (io), 51 B3 (io), 52 B2 (io), 54 B1 (io), 55 CLKAB (in), 56 ~{CLKENAB} (in)
part B pins: 4 GND (power), 7 VCC (power), 11 GND (power), 18 GND (power), 22 VCC (power), 25 GND (power), 32 GND (power), 35 VCC (power), 39 GND (power), 46 GND (power), 50 VCC (power), 53 GND (power)

## SN74ALVTH16601VR
designator U?
2.5-V/3.3-V 18-Bit Universal Bus Transceiver With 3-State Outputs, DGV0056A, LARGE T&R; Generic Part Number: SN74ALVTH16601; Manufacturer: Texas Instruments; PartNumber: SN74ALVTH16601VR; VCC(Min)(V): 2.3; VCC(Max)(V): 3.6; Output Type: LVTTL; ICC @ Nom Voltage(Max)(mA): 5; Bits(#): 18; F @ Nom Voltage(Max)(Mhz): 160; Rating: Catalog; Technology Family: ALVT; Voltage(Nom)(V): 2.5,3.3; Schmitt Trigger: No; Output Drive (IOL/IOH)(Max)(mA): -24/24,-32/64; tpd @ Nom Voltage(Max)(ns): 4.8,3.9; DatasheetVersion: SCES143A; PackageReference: DGV0056A; Supplier 1: Mouser; Supplier Part Number 1: 595-SN74ALVTH16601VR; Supplier 2: Digi-Key; Supplier Part Number 2: 296-6314-2-ND; Supplier 3: Digi-Key; Supplier Part Number 3: 296-6314-1-ND; Supplier 4: Digi-Key; Supplier Part Number 4: 296-6314-6-ND; Input Type: LVTTL; Operating Temperature Range(C): -40 to 85; ComponentLink1Description: Manufacturer URL; ComponentLink1URL: http://www.ti.com/; ComponentLink2Description: Datasheet; ComponentLink2URL: http://www.ti.com/lit/ds/symlink/sn74alvth16601.pdf
footprint DGV0056A_N (SOP, 56-Leads, Body 4.5x11.4mm, Pitch 0.4mm, IPC Medium Density)
footprint DGV0056A_M (SOP, 56-Leads, Body 4.5x11.4mm, Pitch 0.4mm, IPC Low Density)
footprint DGV0056A_L (SOP, 56-Leads, Body 4.5x11.4mm, Pitch 0.4mm, IPC High Density)
part A pins: 1 ~{OEAB} (in), 2 LEAB (in), 3 A1 (io), 5 A2 (io), 6 A3 (io), 8 A4 (io), 9 A5 (io), 10 A6 (io), 12 A7 (io), 13 A8 (io), 14 A9 (io), 15 A10 (io), 16 A11 (io), 17 A12 (io), 19 A13 (io), 20 A14 (io), 21 A15 (io), 23 A16 (io), 24 A17 (io), 26 A18 (io), 27 ~{OEBA} (in), 28 LEBA (in), 29 ~{CLKENBA} (in), 30 CLKBA (in), 31 B18 (io), 33 B17 (io), 34 B16 (io), 36 B15 (io), 37 B14 (io), 38 B13 (io), 40 B12 (io), 41 B11 (io), 42 B10 (io), 43 B9 (io), 44 B8 (io), 45 B7 (io), 47 B6 (io), 48 B5 (io), 49 B4 (io), 51 B3 (io), 52 B2 (io), 54 B1 (io), 55 CLKAB (in), 56 ~{CLKENAB} (in)
part B pins: 4 GND (power), 7 VCC (power), 11 GND (power), 18 GND (power), 22 VCC (power), 25 GND (power), 32 GND (power), 35 VCC (power), 39 GND (power), 46 GND (power), 50 VCC (power), 53 GND (power)

## SN74AVC16334DGGR
designator U?
16-Bit Universal Bus Driver With 3-State Outputs, DGG0048A, LARGE T&R; Generic Part Number: SN74AVC16334; Manufacturer: Texas Instruments; PartNumber: SN74AVC16334DGGR; VCC(Min)(V): 1.4; VCC(Max)(V): 3.6; Output Type: CMOS; ICC @ Nom Voltage(Max)(mA): 0.04; Bits(#): 16; F @ Nom Voltage(Max)(Mhz): 150; Rating: Catalog; Technology Family: AVC; Voltage(Nom)(V): 1.8,2.5,3.3; DatasheetVersion: SCES154I; PackageReference: DGG0048A; Input Type: CMOS; Operating Temperature Range(C): -40 to 85; Code_JEDEC: MO-153; ComponentLink1Description: Manufacturer URL; ComponentLink1URL: http://www.ti.com/; ComponentLink2Description: Datasheet; ComponentLink2URL: http://www.ti.com/lit/ds/symlink/sn74avc16334.pdf; ComponentLink3Description: Package Specification; ComponentLink3URL: http://www.ti.com/lit/ml/mtss003d/mtss003d.pdf
footprint DGG0048A_N (TSSOP, 48-Leads, Body 12.6x6.2mm, Pitch 0.5mm, IPC Medium Density)
footprint DGG0048A_M (TSSOP, 48-Leads, Body 12.6x6.2mm, Pitch 0.5mm, IPC Low Density)
footprint DGG0048A_L (TSSOP, 48-Leads, Body 12.6x6.2mm, Pitch 0.5mm, IPC High Density)
part A pins: 1 ~{OE} (in), 2 Y1 (hiz), 3 Y2 (hiz), 5 Y3 (hiz), 6 Y4 (hiz), 8 Y5 (hiz), 9 Y6 (hiz), 11 Y7 (hiz), 12 Y8 (hiz), 13 Y9 (hiz), 14 Y10 (hiz), 16 Y11 (hiz), 17 Y12 (hiz), 19 Y13 (hiz), 20 Y14 (hiz), 22 Y15 (hiz), 23 Y16 (hiz), 25 ~{LE} (in), 26 A16 (in), 27 A15 (in), 29 A14 (in), 30 A13 (in), 32 A12 (in), 33 A11 (in), 35 A10 (in), 36 A9 (in), 37 A8 (in), 38 A7 (in), 40 A6 (in), 41 A5 (in), 43 A4 (in), 44 A3 (in), 46 A2 (in), 47 A1 (in), 48 CLK (in)
part B pins: 4 GND (power), 7 VCC (power), 10 GND (power), 15 GND (power), 18 VCC (power), 21 GND (power), 24 NC, 28 GND (power), 31 VCC (power), 34 GND (power), 39 GND (power), 42 VCC (power), 45 GND (power)

## SN74AVC16334DGVR
designator U?
16-Bit Universal Bus Driver With 3-State Outputs, DGV0048A, LARGE T&R; Generic Part Number: SN74AVC16334; Manufacturer: Texas Instruments; PartNumber: SN74AVC16334DGVR; VCC(Min)(V): 1.4; VCC(Max)(V): 3.6; Output Type: CMOS; ICC @ Nom Voltage(Max)(mA): 0.04; Bits(#): 16; F @ Nom Voltage(Max)(Mhz): 150; Rating: Catalog; Technology Family: AVC; Voltage(Nom)(V): 1.8,2.5,3.3; DatasheetVersion: SCES154I; PackageReference: DGV0048A; Input Type: CMOS; Operating Temperature Range(C): -40 to 85; Code_JEDEC: MO-153; ComponentLink1Description: Manufacturer URL; ComponentLink1URL: http://www.ti.com/; ComponentLink2Description: Datasheet; ComponentLink2URL: http://www.ti.com/lit/ds/symlink/sn74avc16334.pdf; ComponentLink3Description: Package Specification; ComponentLink3URL: http://www.ti.com/lit/ml/mpds006c/mpds006c.pdf
footprint DGV0048A_N (SOP, 48-Leads, Body 4.5x9.8mm, Pitch 0.4mm, IPC Medium Density)
footprint DGV0048A_M (SOP, 48-Leads, Body 4.5x9.8mm, Pitch 0.4mm, IPC Low Density)
footprint DGV0048A_L (SOP, 48-Leads, Body 4.5x9.8mm, Pitch 0.4mm, IPC High Density)
part A pins: 1 ~{OE} (in), 2 Y1 (hiz), 3 Y2 (hiz), 5 Y3 (hiz), 6 Y4 (hiz), 8 Y5 (hiz), 9 Y6 (hiz), 11 Y7 (hiz), 12 Y8 (hiz), 13 Y9 (hiz), 14 Y10 (hiz), 16 Y11 (hiz), 17 Y12 (hiz), 19 Y13 (hiz), 20 Y14 (hiz), 22 Y15 (hiz), 23 Y16 (hiz), 25 ~{LE} (in), 26 A16 (in), 27 A15 (in), 29 A14 (in), 30 A13 (in), 32 A12 (in), 33 A11 (in), 35 A10 (in), 36 A9 (in), 37 A8 (in), 38 A7 (in), 40 A6 (in), 41 A5 (in), 43 A4 (in), 44 A3 (in), 46 A2 (in), 47 A1 (in), 48 CLK (in)
part B pins: 4 GND (power), 7 VCC (power), 10 GND (power), 15 GND (power), 18 VCC (power), 21 GND (power), 24 NC, 28 GND (power), 31 VCC (power), 34 GND (power), 39 GND (power), 42 VCC (power), 45 GND (power)

## SN74AVC16834DGGR
designator U?
18-Bit Universal Bus Driver With 3-State Outputs, DGG0056A, LARGE T&R; Generic Part Number: SN74AVC16834; Manufacturer: Texas Instruments; PartNumber: SN74AVC16834DGGR; VCC(Min)(V): 1.4; VCC(Max)(V): 3.6; Output Type: CMOS; ICC @ Nom Voltage(Max)(mA): 0.04; Bits(#): 18; F @ Nom Voltage(Max)(Mhz): 150; Rating: Catalog; Technology Family: AVC; Voltage(Nom)(V): 1.8,2.5,3.3; DatasheetVersion: SCES183H; PackageReference: DGG0056A; Input Type: CMOS; Operating Temperature Range(C): -40 to 85; Code_JEDEC: MO-153; ComponentLink1Description: Manufacturer URL; ComponentLink1URL: http://www.ti.com/; ComponentLink2Description: Datasheet; ComponentLink2URL: http://www.ti.com/lit/ds/symlink/sn74avc16834.pdf; ComponentLink3Description: Package Specification; ComponentLink3URL: http://www.ti.com/lit/ml/mtss003d/mtss003d.pdf
footprint DGG0056A_N (TSSOP, 56-Leads, Body 14.1x6.2mm, Pitch 0.5mm, IPC Medium Density)
footprint DGG0056A_M (TSSOP, 56-Leads, Body 14.1x6.2mm, Pitch 0.5mm, IPC Low Density)
footprint DGG0056A_L (TSSOP, 56-Leads, Body 14.1x6.2mm, Pitch 0.5mm, IPC High Density)
part A pins: 3 Y1 (hiz), 5 Y2 (hiz), 6 Y3 (hiz), 8 Y4 (hiz), 9 Y5 (hiz), 10 Y6 (hiz), 12 Y7 (hiz), 13 Y8 (hiz), 14 Y9 (hiz), 15 Y10 (hiz), 16 Y11 (hiz), 17 Y12 (hiz), 19 Y13 (hiz), 20 Y14 (hiz), 21 Y15 (hiz), 23 Y16 (hiz), 24 Y17 (hiz), 26 Y18 (hiz), 27 ~{OE} (in), 28 ~{LE} (in), 30 CLK (in), 31 A18 (in), 33 A17 (in), 34 A16 (in), 36 A15 (in), 37 A14 (in), 38 A13 (in), 40 A12 (in), 41 A11 (in), 42 A10 (in), 43 A9 (in), 44 A8 (in), 45 A7 (in), 47 A6 (in), 48 A5 (in), 49 A4 (in), 51 A3 (in), 52 A2 (in), 54 A1 (in)
part B pins: 1 NC, 2 NC, 4 GND (power), 7 VCC (power), 11 GND (power), 18 GND (power), 22 VCC (power), 25 GND (power), 29 GND (power), 32 GND (power), 35 VCC (power), 39 GND (power), 46 GND (power), 50 VCC (power), 53 GND (power), 55 NC, 56 GND (power)

## SN74AVC16834DGVR
designator U?
18-Bit Universal Bus Driver With 3-State Outputs, DGV0056A, LARGE T&R; Generic Part Number: SN74AVC16834; Manufacturer: Texas Instruments; PartNumber: SN74AVC16834DGVR; VCC(Min)(V): 1.4; VCC(Max)(V): 3.6; Output Type: CMOS; ICC @ Nom Voltage(Max)(mA): 0.04; Bits(#): 18; F @ Nom Voltage(Max)(Mhz): 150; Rating: Catalog; Technology Family: AVC; Voltage(Nom)(V): 1.8,2.5,3.3; DatasheetVersion: SCES183H; PackageReference: DGV0056A; Input Type: CMOS; Operating Temperature Range(C): -40 to 85; Code_JEDEC: MO-194; ComponentLink1Description: Manufacturer URL; ComponentLink1URL: http://www.ti.com/; ComponentLink2Description: Datasheet; ComponentLink2URL: http://www.ti.com/lit/ds/symlink/sn74avc16834.pdf; ComponentLink3Description: Package Specification; ComponentLink3URL: http://www.ti.com/lit/ml/mpds006c/mpds006c.pdf
footprint DGV0056A_N (SOP, 56-Leads, Body 4.5x11.4mm, Pitch 0.4mm, IPC Medium Density)
footprint DGV0056A_M (SOP, 56-Leads, Body 4.5x11.4mm, Pitch 0.4mm, IPC Low Density)
footprint DGV0056A_L (SOP, 56-Leads, Body 4.5x11.4mm, Pitch 0.4mm, IPC High Density)
part A pins: 3 Y1 (hiz), 5 Y2 (hiz), 6 Y3 (hiz), 8 Y4 (hiz), 9 Y5 (hiz), 10 Y6 (hiz), 12 Y7 (hiz), 13 Y8 (hiz), 14 Y9 (hiz), 15 Y10 (hiz), 16 Y11 (hiz), 17 Y12 (hiz), 19 Y13 (hiz), 20 Y14 (hiz), 21 Y15 (hiz), 23 Y16 (hiz), 24 Y17 (hiz), 26 Y18 (hiz), 27 ~{OE} (in), 28 ~{LE} (in), 30 CLK (in), 31 A18 (in), 33 A17 (in), 34 A16 (in), 36 A15 (in), 37 A14 (in), 38 A13 (in), 40 A12 (in), 41 A11 (in), 42 A10 (in), 43 A9 (in), 44 A8 (in), 45 A7 (in), 47 A6 (in), 48 A5 (in), 49 A4 (in), 51 A3 (in), 52 A2 (in), 54 A1 (in)
part B pins: 1 NC, 2 NC, 4 GND (power), 7 VCC (power), 11 GND (power), 18 GND (power), 22 VCC (power), 25 GND (power), 29 GND (power), 32 GND (power), 35 VCC (power), 39 GND (power), 46 GND (power), 50 VCC (power), 53 GND (power), 55 NC, 56 GND (power)

## SN74AVC16835DGGR
designator U?
18-Bit Universal Bus Driver With 3-State Outputs, DGG0056A, LARGE T&R; Generic Part Number: SN74AVC16835; Manufacturer: Texas Instruments; PartNumber: SN74AVC16835DGGR; VCC(Min)(V): 1.4; VCC(Max)(V): 3.6; Output Type: CMOS; ICC @ Nom Voltage(Max)(mA): 0.04; Bits(#): 18; F @ Nom Voltage(Max)(Mhz): 150; Rating: Catalog; Technology Family: AVC; Voltage(Nom)(V): 1.8,2.5,3.3; DatasheetVersion: SCES168J; PackageReference: DGG0056A; Input Type: CMOS; Operating Temperature Range(C): -40 to 85; Code_JEDEC: MO-153; ComponentLink1Description: Manufacturer URL; ComponentLink1URL: http://www.ti.com/; ComponentLink2Description: Datasheet; ComponentLink2URL: http://www.ti.com/lit/ds/symlink/sn74avc16835.pdf; ComponentLink3Description: Package Specification; ComponentLink3URL: http://www.ti.com/lit/ml/mtss003d/mtss003d.pdf
footprint DGG0056A_N (TSSOP, 56-Leads, Body 14.1x6.2mm, Pitch 0.5mm, IPC Medium Density)
footprint DGG0056A_M (TSSOP, 56-Leads, Body 14.1x6.2mm, Pitch 0.5mm, IPC Low Density)
footprint DGG0056A_L (TSSOP, 56-Leads, Body 14.1x6.2mm, Pitch 0.5mm, IPC High Density)
part A pins: 3 Y1 (hiz), 5 Y2 (hiz), 6 Y3 (hiz), 8 Y4 (hiz), 9 Y5 (hiz), 10 Y6 (hiz), 12 Y7 (hiz), 13 Y8 (hiz), 14 Y9 (hiz), 15 Y10 (hiz), 16 Y11 (hiz), 17 Y12 (hiz), 19 Y13 (hiz), 20 Y14 (hiz), 21 Y15 (hiz), 23 Y16 (hiz), 24 Y17 (hiz), 26 Y18 (hiz), 27 ~{OE} (in), 28 LE (in), 30 CLK (in), 31 A18 (in), 33 A17 (in), 34 A16 (in), 36 A15 (in), 37 A14 (in), 38 A13 (in), 40 A12 (in), 41 A11 (in), 42 A10 (in), 43 A9 (in), 44 A8 (in), 45 A7 (in), 47 A6 (in), 48 A5 (in), 49 A4 (in), 51 A3 (in), 52 A2 (in), 54 A1 (in)
part B pins: 1 NC, 2 NC, 4 GND (power), 7 VCC (power), 11 GND (power), 18 GND (power), 22 VCC (power), 25 GND (power), 29 GND (power), 32 GND (power), 35 VCC (power), 39 GND (power), 46 GND (power), 50 VCC (power), 53 GND (power), 55 NC, 56 GND (power)

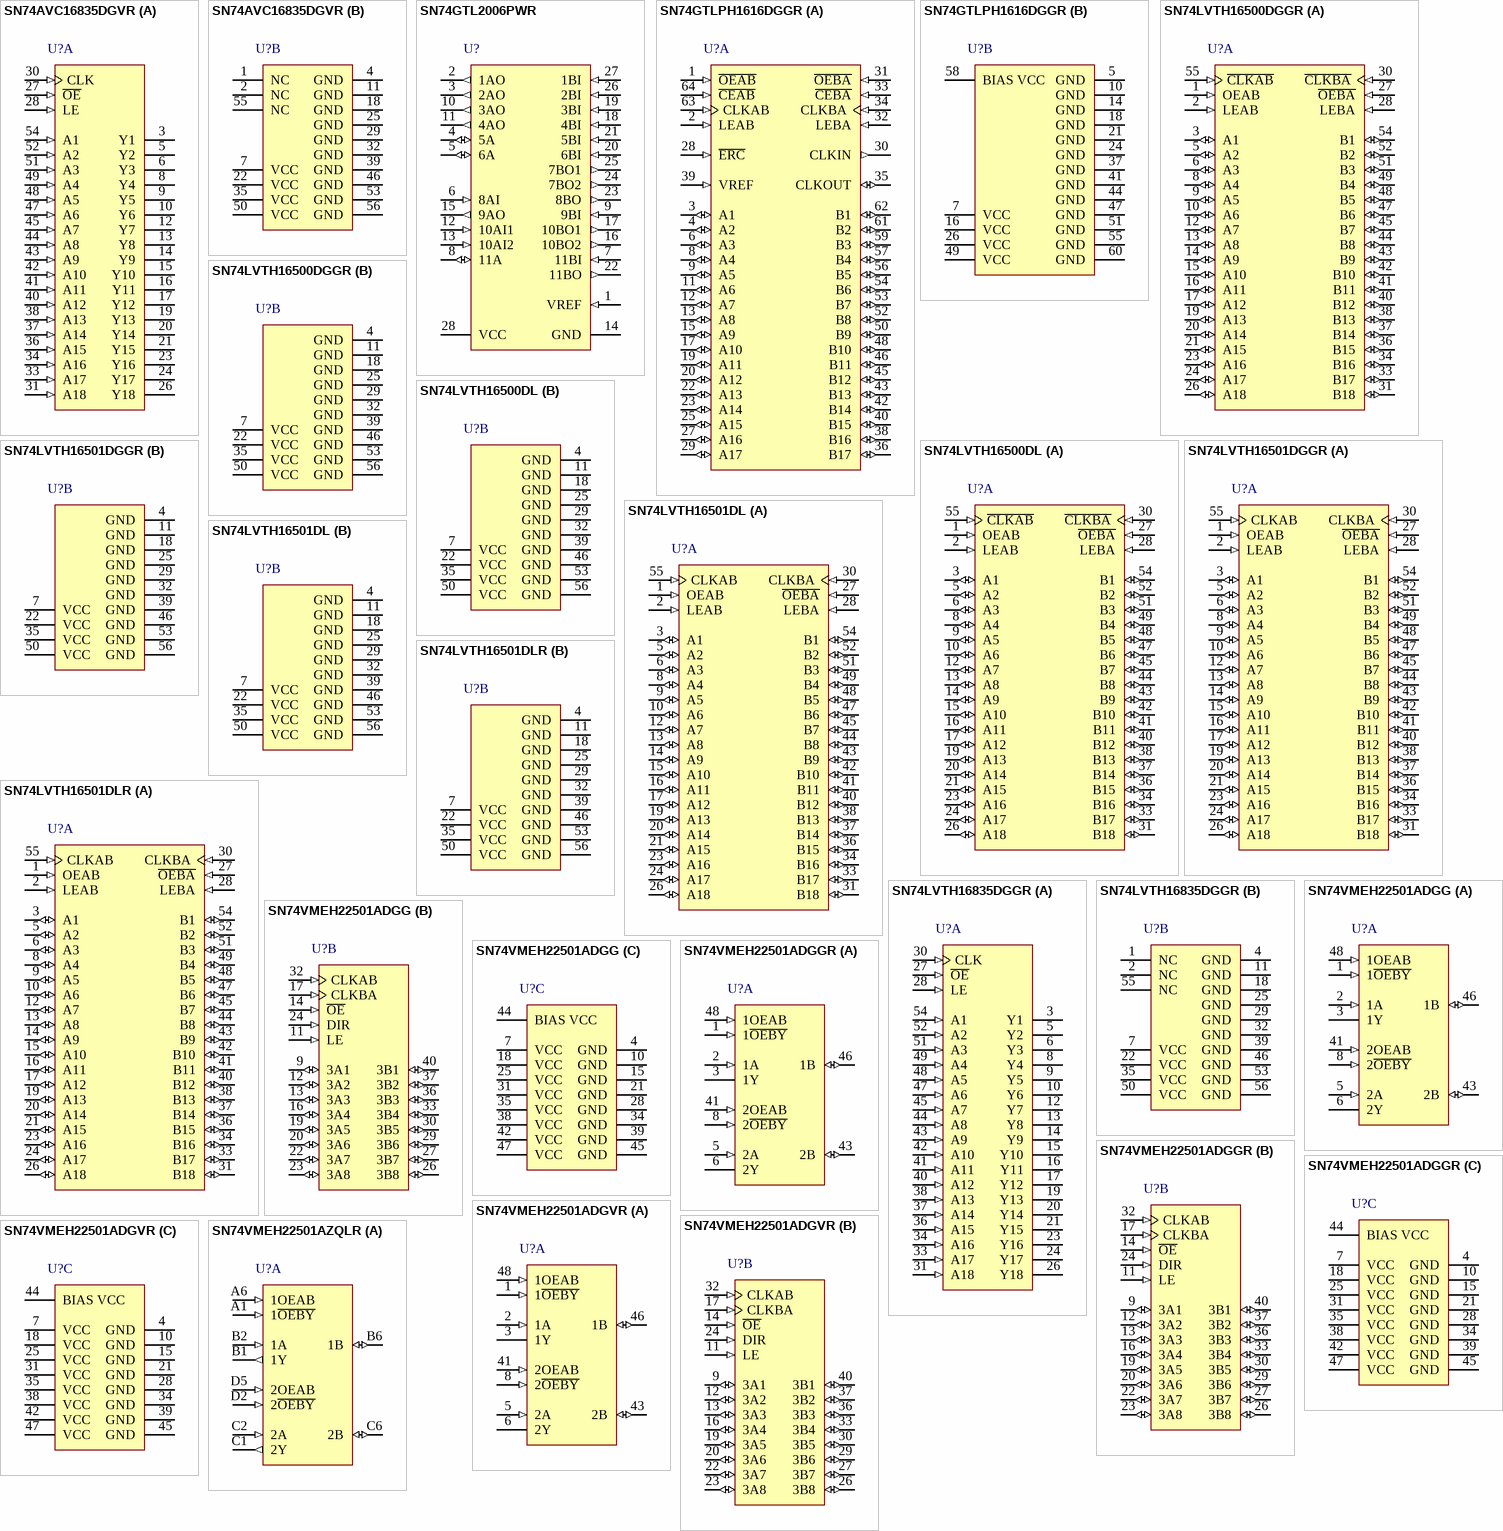
[diagram p8: symbols SN74AVC16835DGVR to SN74VMEH22501AZQLR]

## SN74AVC16835DGVR
designator U?
18-Bit Universal Bus Driver With 3-State Outputs, DGV0056A, LARGE T&R; Generic Part Number: SN74AVC16835; Manufacturer: Texas Instruments; PartNumber: SN74AVC16835DGVR; VCC(Min)(V): 1.4; VCC(Max)(V): 3.6; Output Type: CMOS; ICC @ Nom Voltage(Max)(mA): 0.04; Bits(#): 18; F @ Nom Voltage(Max)(Mhz): 150; Rating: Catalog; Technology Family: AVC; Voltage(Nom)(V): 1.8,2.5,3.3; DatasheetVersion: SCES168J; PackageReference: DGV0056A; Input Type: CMOS; Operating Temperature Range(C): -40 to 85; Code_JEDEC: MO-194; ComponentLink1Description: Manufacturer URL; ComponentLink1URL: http://www.ti.com/; ComponentLink2Description: Datasheet; ComponentLink2URL: http://www.ti.com/lit/ds/symlink/sn74avc16835.pdf; ComponentLink3Description: Package Specification; ComponentLink3URL: http://www.ti.com/lit/ml/mpds006c/mpds006c.pdf
footprint DGV0056A_N (SOP, 56-Leads, Body 4.5x11.4mm, Pitch 0.4mm, IPC Medium Density)
footprint DGV0056A_M (SOP, 56-Leads, Body 4.5x11.4mm, Pitch 0.4mm, IPC Low Density)
footprint DGV0056A_L (SOP, 56-Leads, Body 4.5x11.4mm, Pitch 0.4mm, IPC High Density)
part A pins: 3 Y1 (hiz), 5 Y2 (hiz), 6 Y3 (hiz), 8 Y4 (hiz), 9 Y5 (hiz), 10 Y6 (hiz), 12 Y7 (hiz), 13 Y8 (hiz), 14 Y9 (hiz), 15 Y10 (hiz), 16 Y11 (hiz), 17 Y12 (hiz), 19 Y13 (hiz), 20 Y14 (hiz), 21 Y15 (hiz), 23 Y16 (hiz), 24 Y17 (hiz), 26 Y18 (hiz), 27 ~{OE} (in), 28 LE (in), 30 CLK (in), 31 A18 (in), 33 A17 (in), 34 A16 (in), 36 A15 (in), 37 A14 (in), 38 A13 (in), 40 A12 (in), 41 A11 (in), 42 A10 (in), 43 A9 (in), 44 A8 (in), 45 A7 (in), 47 A6 (in), 48 A5 (in), 49 A4 (in), 51 A3 (in), 52 A2 (in), 54 A1 (in)
part B pins: 1 NC, 2 NC, 4 GND (power), 7 VCC (power), 11 GND (power), 18 GND (power), 22 VCC (power), 25 GND (power), 29 GND (power), 32 GND (power), 35 VCC (power), 39 GND (power), 46 GND (power), 50 VCC (power), 53 GND (power), 55 NC, 56 GND (power)

## SN74GTL2006PWR
designator U?
13-Bit GTL-/GTL/GTL+ To LVTTL Translator, PW0028A, LARGE T&R; Generic Part Number: SN74GTL2006; Manufacturer: Texas Instruments; PartNumber: SN74GTL2006PWR; DatasheetVersion: SCES619; PackageReference: PW0028A; Supplier 1: Mouser; Supplier Part Number 1: 595-SN74GTL2006PWR; Supplier 2: Digi-Key; Supplier Part Number 2: 296-17670-2-ND; Supplier 3: Digi-Key; Supplier Part Number 3: 296-17670-1-ND; Supplier 4: Digi-Key; Supplier Part Number 4: 296-17670-6-ND; ComponentLink1Description: Manufacturer URL; ComponentLink1URL: http://www.ti.com/; ComponentLink2Description: Datasheet; ComponentLink2URL: http://www.ti.com/lit/ds/symlink/sn74gtl2006.pdf
footprint PW0028A_N (SOP, 28-Leads, Body 9.8x4.5mm, Pitch 0.65mm, IPC Medium Density)
footprint PW0028A_M (SOP, 28-Leads, Body 9.8x4.5mm, Pitch 0.65mm, IPC Low Density)
footprint PW0028A_L (SOP, 28-Leads, Body 9.8x4.5mm, Pitch 0.65mm, IPC High Density)
pins: 1 VREF (in) "GTL reference voltage", 2 1AO (out) "Data outputs (LVTTL)", 3 2AO (out) "Data outputs (LVTTL)", 4 5A (io) "Data inputs/outputs (LVTTL)", 5 6A (io) "Data inputs/outputs (LVTTL)", 6 8AI (in) "Data inputs (LVTTL)", 7 11BI (in) "Data inputs (GTL-/GTL/GTL+)", 8 11A (io) "Data inputs/outputs (LVTTL)", 9 9BI (in) "Data inputs (GTL-/GTL/GTL+)", 10 3AO (out) "Data outputs (LVTTL)", 11 4AO (out) "Data outputs (LVTTL)", 12 10AI1 (in) "Data inputs (LVTTL)", 13 10AI2 (in) "Data inputs (LVTTL)", 14 GND (power) "Ground (0 V)", 15 9AO (out) "Dataoutputs (LVTTL)", 16 10BO2 (out) "Data outputs (GTL-/GTL/GTL+)", 17 10BO1 (out) "Data outputs (GTL-/GTL/GTL+)", 18 4BI (in) "Data inputs (GTL-/GTL/GTL+)", 19 3BI (in) "Data inputs (GTL-/GTL/GTL+)", 20 6BI (in) "Data inputs (GTL-/GTL/GTL+)", 21 5BI (in) "Data inputs (GTL-/GTL/GTL+)", 22 11BO (out) "Data outputs (GTL-/GTL/GTL+)", 23 8BO (out) "Data outputs (GTL-/GTL/GTL+)", 24 7BO2 (out) "Data outputs (GTL-/GTL/GTL+)", 25 7BO1 (out) "Data outputs (GTL-/GTL/GTL+)", 26 2BI (in) "Data inputs (GTL-/GTL/GTL+)", 27 1BI (in) "Data inputs (GTL-/GTL/GTL+)", 28 VCC (power) "Positive supply voltage"

## SN74GTLPH1616DGGR
designator U?
17-Bit LVTTL-to-GTLP Adjustable-Edge-Rate Universal Bus Transceiver with Buffered Clock Outputs, DGG0064A, LARGE T&R; Generic Part Number: SN74GTLPH1616; Manufacturer: Texas Instruments; PartNumber: SN74GTLPH1616DGGR; VCC(Min)(V): 3.15; VCC(Max)(V): 3.45; Output Type: GTLP/LVTTL; Logic: True; Static Current: 45; Bits(#): 17; F @ Nom Voltage(Max)(Mhz): 175; Rating: Catalog; Technology Family: GTLP; Voltage(Nom)(V): 3.6; Schmitt Trigger: No; Output Drive (IOL/IOH)(Max)(mA): -24/24; tpd @ Nom Voltage(Max)(ns): 7.1; DatasheetVersion: SCES346C; PackageReference: DGG0064A; Supplier 1: Mouser; Supplier Part Number 1: 595-SN74GTLPH1616DGG; Supplier 2: Digi-Key; Supplier Part Number 2: 296-11932-2-ND; Supplier 3: Digi-Key; Supplier Part Number 3: 296-11932-1-ND; Supplier 4: Digi-Key; Supplier Part Number 4: 296-11932-6-ND; ICC @ Nom Voltage(Max)(mA): 45; Input Type: GTLP/LVTTL; Operating Temperature Range(C): -40 to 85; ComponentLink1Description: Manufacturer URL; ComponentLink1URL: http://www.ti.com/; ComponentLink2Description: Datasheet; ComponentLink2URL: http://www.ti.com/lit/ds/symlink/sn74gtlph1616.pdf
footprint DGG0064A_N (TSSOP, 64-Leads, Body 17.1x6.2mm, Pitch 0.5mm, IPC Medium Density)
footprint DGG0064A_M (TSSOP, 64-Leads, Body 17.1x6.2mm, Pitch 0.5mm, IPC Low Density)
footprint DGG0064A_L (TSSOP, 64-Leads, Body 17.1x6.2mm, Pitch 0.5mm, IPC High Density)
part A pins: 1 ~{OEAB} (in), 2 LEAB (in), 3 A1 (io), 4 A2 (io), 6 A3 (io), 8 A4 (io), 9 A5 (io), 11 A6 (io), 12 A7 (io), 13 A8 (io), 15 A9 (io), 17 A10 (io), 19 A11 (io), 20 A12 (io), 22 A13 (io), 23 A14 (io), 25 A15 (io), 27 A16 (io), 28 ~{ERC} (in), 29 A17 (io), 30 CLKIN (out), 31 ~{OEBA} (in), 32 LEBA (in), 33 ~{CEBA} (in), 34 CLKBA (in), 35 CLKOUT (io), 36 B17 (io), 38 B16 (io), 39 VREF (in), 40 B15 (io), 42 B14 (io), 43 B13 (io), 45 B12 (io), 46 B11 (io), 48 B10 (io), 50 B9 (io), 52 B8 (io), 53 B7 (io), 54 B6 (io), 56 B5 (io), 57 B4 (io), 59 B3 (io), 61 B2 (io), 62 B1 (io), 63 CLKAB (in), 64 ~{CEAB} (in)
part B pins: 5 GND (power), 7 VCC (power), 10 GND (power), 14 GND (power), 16 VCC (power), 18 GND (power), 21 GND (power), 24 GND (power), 26 VCC (power), 37 GND (power), 41 GND (power), 44 GND (power), 47 GND (power), 49 VCC (power), 51 GND (power), 55 GND (power), 58 BIAS VCC (power), 60 GND (power)

## SN74LVTH16500DGGR
designator U?
3.3-V ABT 18-Bit Universal Bus Transceivers With 3-State Outputs, DGG0056A, LARGE T&R; Generic Part Number: SN74LVTH16500; Manufacturer: Texas Instruments; PartNumber: SN74LVTH16500DGGR; VCC(Min)(V): 2.7; VCC(Max)(V): 3.6; Output Type: CMOS; ICC @ Nom Voltage(Max)(mA): 5; Input Type: TTL/CMOS; Bits(#): 18; F @ Nom Voltage(Max)(Mhz): 160; Rating: Catalog; Technology Family: LVT; Voltage(Nom)(V): 3.3; Schmitt Trigger: No; Output Drive (IOL/IOH)(Max)(mA): 64/-32; tpd @ Nom Voltage(Max)(ns): 3.7; DatasheetVersion: SCBS701F; PackageReference: DGG0056A; Supplier 1: Mouser; Supplier Part Number 1: 595-SNLVTH16500DGGR; Supplier 2: Digi-Key; Supplier Part Number 2: 296-8689-2-ND; Supplier 3: Digi-Key; Supplier Part Number 3: 296-8689-1-ND; Supplier 4: Digi-Key; Supplier Part Number 4: 296-8689-6-ND; Operating Temperature Range(C): -40 to 85; ComponentLink1Description: Manufacturer URL; ComponentLink1URL: http://www.ti.com/; ComponentLink2Description: Datasheet; ComponentLink2URL: http://www.ti.com/lit/ds/symlink/sn74lvth16500.pdf
footprint DGG0056A_N (TSSOP, 56-Leads, Body 14.1x6.2mm, Pitch 0.5mm, IPC Medium Density)
footprint DGG0056A_M (TSSOP, 56-Leads, Body 14.1x6.2mm, Pitch 0.5mm, IPC Low Density)
footprint DGG0056A_L (TSSOP, 56-Leads, Body 14.1x6.2mm, Pitch 0.5mm, IPC High Density)
part A pins: 1 OEAB (in), 2 LEAB (in), 3 A1 (io), 5 A2 (io), 6 A3 (io), 8 A4 (io), 9 A5 (io), 10 A6 (io), 12 A7 (io), 13 A8 (io), 14 A9 (io), 15 A10 (io), 16 A11 (io), 17 A12 (io), 19 A13 (io), 20 A14 (io), 21 A15 (io), 23 A16 (io), 24 A17 (io), 26 A18 (io), 27 ~{OEBA} (in), 28 LEBA (in), 30 ~{CLKBA} (in), 31 B18 (io), 33 B17 (io), 34 B16 (io), 36 B15 (io), 37 B14 (io), 38 B13 (io), 40 B12 (io), 41 B11 (io), 42 B10 (io), 43 B9 (io), 44 B8 (io), 45 B7 (io), 47 B6 (io), 48 B5 (io), 49 B4 (io), 51 B3 (io), 52 B2 (io), 54 B1 (io), 55 ~{CLKAB} (in)
part B pins: 4 GND (power), 7 VCC (power), 11 GND (power), 18 GND (power), 22 VCC (power), 25 GND (power), 29 GND (power), 32 GND (power), 35 VCC (power), 39 GND (power), 46 GND (power), 50 VCC (power), 53 GND (power), 56 GND (power)